# Altium schematic symbol library dig_logic.SchLib: 8 symbols
Pins are listed as number, name and electrical type; pins without a type are passive.

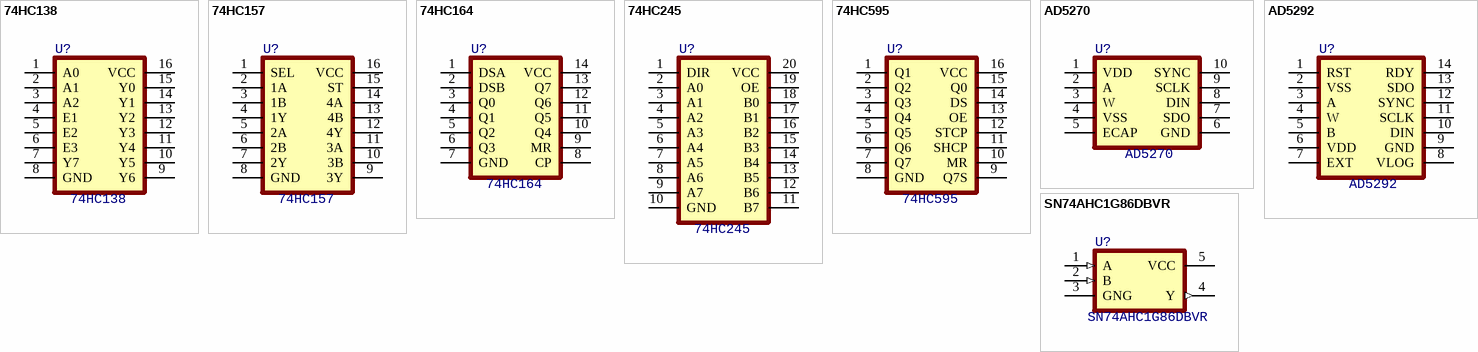
[diagram p0: symbols 74HC138 to SN74AHC1G86DBVR]

## 74HC138
designator U?
74 Series
footprint _SOP_E150_16
pins: 1 A0, 2 A1, 3 A2, 4 E1, 5 E2, 6 E3, 7 Y7, 8 GND, 9 Y6, 10 Y5, 11 Y4, 12 Y3, 13 Y2, 14 Y1, 15 Y0, 16 VCC

## 74HC157
designator U?
74 Series
footprint _SOP_E150_16
pins: 1 SEL, 2 1A, 3 1B, 4 1Y, 5 2A, 6 2B, 7 2Y, 8 GND, 9 3Y, 10 3B, 11 3A, 12 4Y, 13 4B, 14 4A, 15 ST, 16 VCC

## 74HC164
designator U?
74 Series
footprint _SOP_E150_14
pins: 1 DSA, 2 DSB, 3 Q0, 4 Q1, 5 Q2, 6 Q3, 7 GND, 8 CP, 9 MR, 10 Q4, 11 Q5, 12 Q6, 13 Q7, 14 VCC

## 74HC245
designator U?
74 Series
footprint _SOP_E300_20
pins: 1 DIR, 2 A0, 3 A1, 4 A2, 5 A3, 6 A4, 7 A5, 8 A6, 9 A7, 10 GND, 11 B7, 12 B6, 13 B5, 14 B4, 15 B3, 16 B2, 17 B1, 18 B0, 19 OE, 20 VCC

## 74HC595
designator U?
74 Series
footprint _SOP_E150_16
pins: 1 Q1, 2 Q2, 3 Q3, 4 Q4, 5 Q5, 6 Q6, 7 Q7, 8 GND, 9 Q7S, 10 MR, 11 SHCP, 12 STCP, 13 OE, 14 DS, 15 Q0, 16 VCC

## AD5270
designator U?
Digital Pot
footprint TI MSOP-10 DGQ (TSSOP, 10-Leads, Body 3x3mm, Pitch 0.5mm, Thermal Pad 1.88x1.57mm, IPC Medium Density)
pins: 1 VDD, 2 A, 3 W, 4 VSS, 5 ECAP, 6 GND, 7 SDO, 8 DIN, 9 SCLK, 10 SYNC

## AD5292
designator U?
Digital Pot
footprint _TSSOP_E170_P0.65_14
pins: 1 RST, 2 VSS, 3 A, 4 W, 5 B, 6 VDD, 7 EXT, 8 VLOG, 9 GND, 10 DIN, 11 SCLK, 12 SYNC, 13 SDO, 14 RDY

## SN74AHC1G86DBVR
designator U?
TI single 2-input xor gate
footprint TI SOT-23-5 DBV (SOT23, 5-Leads, Body 2.90x2.80mm, Pitch 0.95mm, IPC Medium Density)
footprint _SOT23-5
pins: 1 A (in), 2 B (in), 3 GNG, 4 Y (out), 5 VCC